# Altium schematic symbol library MT35XL512ABA1G12.SchLib: 1 symbol
Pins are listed as number, name and electrical type; pins without a type are passive.

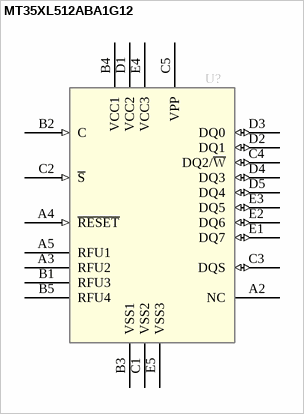
[diagram p0: symbol MT35XL512ABA1G12]

## MT35XL512ABA1G12
designator U?
IC MEM FLASH SERIAL NOR 512Mb 2.7-3.6V AEC-Q100 T-PBGA24
pins: A2 NC, A3 RFU2, A4 ~{RESET} (in), A5 RFU1, B1 RFU3, B2 C (in), B3 VSS1 (power), B4 VCC1 (power), B5 RFU4, C1 VSS2 (power), C2 ~{S} (in), C3 DQS (io), C4 DQ2/~{W} (io), C5 VPP (power), D1 VCC2 (power), D2 DQ1 (io), D3 DQ0 (io), D4 DQ3 (io), D5 DQ4 (io), E1 DQ7 (io), E2 DQ6 (io), E3 DQ5 (io), E4 VCC3 (power), E5 VSS3 (power)